# Altium footprint library PCB_proj_module_1_1.PcbLib: 60 footprints (part 2 of 4)
Each footprint in its own frame and in the unit in brackets; x right, y up, seen from the top. Pads: shape width x height; smd on the part's side, far side on the other; paste and mask are expansions set on the pad; w line width, h text height; cw(c..) or ccw(c..) is an arc to the next point about the centre after c.
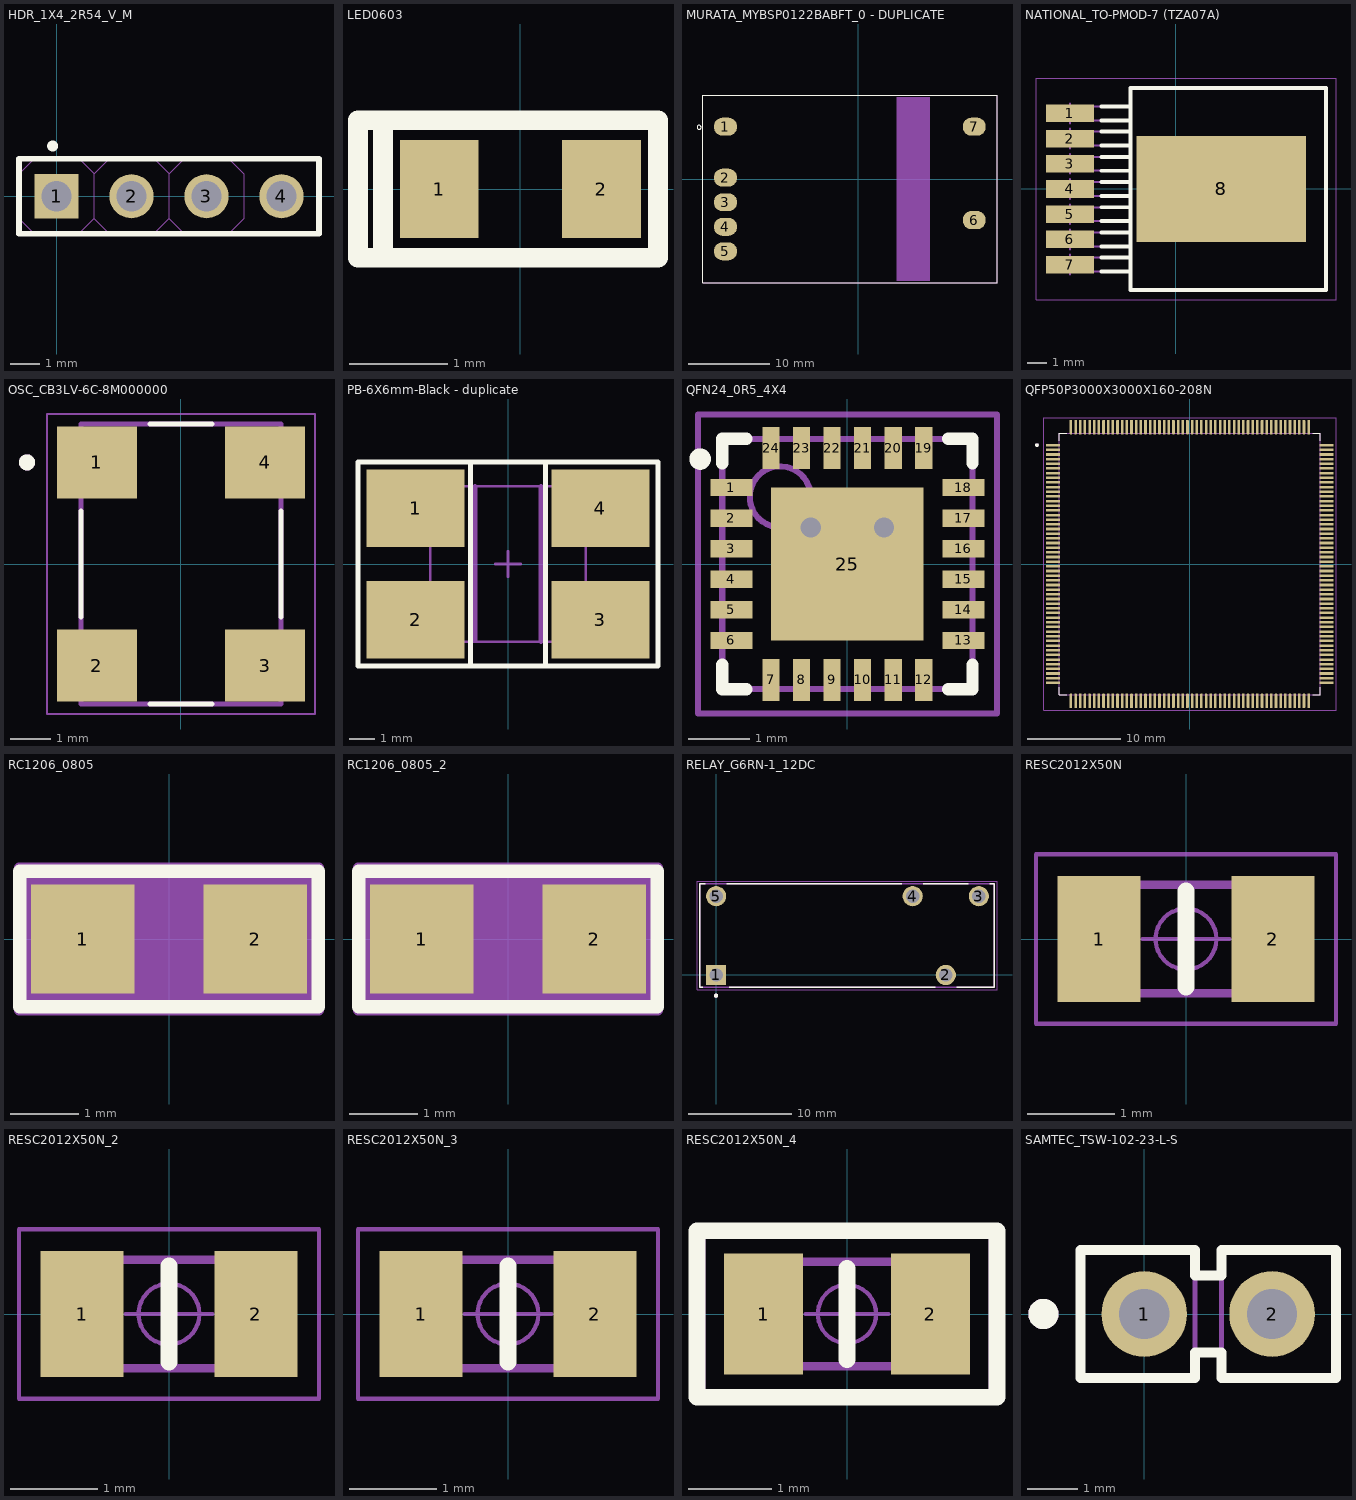
[diagram p1: the footprints below, top view; thin cyan lines are the x and y axes]

## HDR_1X4_2R54_V_M [mm] "Male Header, Pitch 2.54mm, 4x1 Position, Mated Height 6mm, Tail Length 3mm"
height 6
pads (4):
  rect 1.5x1.5 hole 1.02: 1(0,0)
  round 1.5 hole 1.02: 2(2.54,0) 3(5.08,0) 4(7.62,0)
Top Overlay:
  circle w0.25: c-0.135,1.702 r0.059
  lines w0.2: 8.865,1.27 -1.27,1.27 -1.27,-1.27 8.89,-1.27 8.89,1.27
Mechanical 13:
  lines w0.025: -1.27,-0.762 -1.27,0.762 ; -1.27,-0.762 -1.27,0.762 ; -1.27,-0.762 -0.762,-1.27 ; -1.27,0.762 -0.762,1.27 0.762,1.27 1.27,0.762 ; -0.762,-1.27 0.762,-1.27 ; -0.762,-1.27 0.762,-1.27 ; 0.762,-1.27 1.27,-0.762 ; 1.27,-0.762 1.27,0.762 ; 1.27,-0.762 1.27,0.762 ; 1.27,-0.762 1.27,0.762 ; 1.27,-0.762 1.27,0.762 ; 1.27,-0.762 1.778,-1.27 ; 1.27,0.762 1.778,1.27 3.302,1.27 3.81,0.762 ; 1.778,-1.27 3.302,-1.27 ; 1.778,-1.27 3.302,-1.27 ; 3.302,-1.27 3.81,-0.762 ; 3.81,-0.762 3.81,0.762 ; 3.81,-0.762 3.81,0.762 ; 3.81,-0.762 3.81,0.762 ; 3.81,-0.762 3.81,0.762 ; 3.81,-0.762 4.318,-1.27 ; 3.81,0.762 4.318,1.27 5.842,1.27 6.35,0.762 ; 4.318,-1.27 5.842,-1.27 ; 4.318,-1.27 5.842,-1.27 ; 5.842,-1.27 6.35,-0.762 ; 6.35,-0.762 6.35,0.762 ; 6.35,-0.762 6.35,0.762
3D body: height 2.54, standoff 0, extent -1.27,-1.27 1.27,1.27
3D body: height 9, standoff -2.54, extent -0.35,-0.349 0.347,0.349
3D body: height 2.54, standoff 0, extent 1.27,-1.27 3.81,1.27
3D body: height 9, standoff -2.54, extent 2.19,-0.349 2.887,0.349
3D body: height 2.54, standoff 0, extent 3.81,-1.27 6.35,1.27
3D body: height 9, standoff -2.54, extent 4.73,-0.349 5.427,0.349
3D body: height 9, standoff -2.54, extent 7.27,-0.349 7.967,0.349
3D body: height 2.54, standoff 0, extent 6.35,-1.27 8.89,1.27

## LED0603 [mm]
pads (2):
  rect 0.8x1 smd: 1(-0.825,0) 2(0.825,0)
Top Overlay:
  lines w0.2: -1.397,-0.635 -1.397,0.635 ; -1.651,-0.7 1.4,-0.7 1.4,0.7 -1.651,0.7 -1.651,-0.7
Mechanical 14:
  lines w0.1: -0.875,-0.4 -0.875,0.4 ; 0.725,-0.4 0.725,0.4
3D body: height 0.95, standoff 0.1, extent -0.712,-0.475 0.812,0.475

## MURATA_MYBSP0122BABFT_0 - DUPLICATE [mm]
height 3.31
pads (7):
  rrect91% 2.8x2.2 smd: 1(-16.27,6.42) 2(-16.27,0.18) 3(-16.27,-2.82) 4(-16.27,-5.82) 5(-16.27,-8.82) 6(14.17,-5.01) 7(14.17,6.42)
Top Overlay:
  circle w0: c-19.5,6.345 r0.25
  lines w0.15: -19.05,-12.65 16.95,-12.65 16.95,10.25 -19.05,10.25 -19.05,-12.65
Mechanical 14:
  lines w0.15: -19.05,-12.65 16.95,-12.65 16.95,10.25 -19.05,10.25 -19.05,-12.65
Mechanical 16:
  region: 8.7,-12.4 4.7,-12.4 4.7,10 8.7,10
3D body "step_temp.STEP": height 11.15, standoff 0, extent -18.766,-12.343 16.734,10.057

## NATIONAL_TO-PMOD-7 (TZA07A) [mm] "TO-PMOD 7 Pin Package, NATIONAL Package TZA07A, 1.70mm pitch; 9.85mm L X 10.16mm W X 4.67mm H body"
height 4.67
pads (8):
  rect 2.41x0.89 smd: 1(-5.339,3.81) 2(-5.339,2.54) 3(-5.339,1.27) 4(-5.339,0) 5(-5.339,-1.27) 6(-5.339,-2.54) 7(-5.339,-3.81)
  rect 8.54x5.35 smd: 8(2.291,0)
Top Overlay:
  lines w0.2: -3.734,-4.16 -2.279,-4.16 ; -3.734,-3.46 -2.279,-3.46 ; -3.734,-2.89 -2.279,-2.89 ; -3.734,-2.19 -2.279,-2.19 ; -3.734,-1.62 -2.279,-1.62 ; -3.734,-0.92 -2.279,-0.92 ; -3.734,-0.35 -2.279,-0.35 ; -3.734,0.35 -2.279,0.35 ; -3.734,0.92 -2.279,0.92 ; -3.734,1.62 -2.279,1.62 ; -3.734,2.19 -2.279,2.19 ; -3.734,2.89 -2.279,2.89 ; -3.734,3.46 -2.279,3.46 ; -3.734,4.16 -2.279,4.16 ; -2.279,-5.08 -2.279,5.08 7.571,5.08 7.571,-5.08 -2.279,-5.08
Mechanical 8:
  lines w0.1: -5.839,-3.81 -5.339,-3.81 ; -5.839,-2.54 -5.339,-2.54 ; -5.839,-1.27 -5.339,-1.27 ; -5.839,0 -5.339,0 ; -5.839,1.27 -5.339,1.27 ; -5.839,2.54 -5.339,2.54 ; -5.839,3.81 -5.339,3.81 ; -5.339,-4.31 -5.339,-3.81 ; -5.339,-3.31 -5.339,-3.81 ; -5.339,-3.04 -5.339,-2.54 ; -5.339,-2.04 -5.339,-2.54 ; -5.339,-1.77 -5.339,-1.27 ; -5.339,-0.77 -5.339,-1.27 ; -5.339,-0.5 -5.339,0 ; -5.339,0.5 -5.339,0 ; -5.339,0.77 -5.339,1.27 ; -5.339,1.77 -5.339,1.27 ; -5.339,2.04 -5.339,2.54 ; -5.339,3.04 -5.339,2.54 ; -5.339,3.31 -5.339,3.81 ; -5.339,4.31 -5.339,3.81 ; -4.839,-3.81 -5.339,-3.81 ; -4.839,-2.54 -5.339,-2.54 ; -4.839,-1.27 -5.339,-1.27 ; -4.839,0 -5.339,0 ; -4.839,1.27 -5.339,1.27 ; -4.839,2.54 -5.339,2.54 ; -4.839,3.81 -5.339,3.81 ; 1.791,0 2.291,0 ; 2.291,-0.5 2.291,0 ; 2.291,0.5 2.291,0 ; 2.791,0 2.291,0
Mechanical 14:
  lines w0.1: -2.279,-4.16 -6.199,-4.16 -6.199,-3.46 -2.279,-3.46 ; -2.279,-2.89 -6.199,-2.89 -6.199,-2.19 -2.279,-2.19 ; -2.279,-1.62 -6.199,-1.62 -6.199,-0.92 -2.279,-0.92 ; -2.279,-0.35 -6.199,-0.35 -6.199,0.35 -2.279,0.35 ; -2.279,0.92 -6.199,0.92 -6.199,1.62 -2.279,1.62 ; -2.279,2.19 -6.199,2.19 -6.199,2.89 -2.279,2.89 ; -2.279,3.46 -6.199,3.46 -6.199,4.16 -2.279,4.16 ; -2.279,-5.08 -2.279,5.08 7.571,5.08 7.571,-5.08 -2.279,-5.08
Mechanical 15:
  lines w0.05: -0.5,0 0,0 ; 0,-0.5 0,0 ; 0,0.5 0,0 ; 0.5,0 0,0 ; -7.044,-5.58 -7.044,5.58 8.071,5.58 8.071,-5.58 -7.044,-5.58
3D body "NATIONAL_TO-PMOD-7 (TZA07A).stp": height 4.77, standoff 0, extent -6.199,-5.08 7.571,5.08

## OSC_CB3LV-6C-8M000000 [mm]
height 1.8
pads (4):
  rect 2x1.8 smd: 1(-2.1,2.54) 2(-2.1,-2.54) 3(2.1,-2.54) 4(2.1,2.54)
Top Overlay:
  circle w0.2: c-3.85,2.54 r0.1
  lines w0.127: -2.5,-1.32 -2.5,1.32 ; -0.78,-3.5 0.78,-3.5 ; -0.78,3.5 0.78,3.5 ; 2.5,-1.32 2.5,1.32
Mechanical 14:
  circle w0.2: c-3.85,2.54 r0.1
  lines w0.127: -2.5,-3.5 2.5,-3.5 2.5,3.5 -2.5,3.5 -2.5,-3.5
Mechanical 15:
  lines w0.05: -3.35,-3.75 3.35,-3.75 3.35,3.75 -3.35,3.75 -3.35,-3.75
3D body "step_temp.STEP": height 1.8, standoff 0, extent -2.5,-3.5 2.5,3.5

## PB-6X6mm-Black - duplicate [mm] "Surface Mounting Type Tact Switch, 4-Leads, Body 6x6mm, Height 4.5mm Black"
height 4.5
pads (4):
  rect 3.8x3 smd: 1(-3.575,2.15) 2(-3.575,-2.15) 3(3.575,-2.15) 4(3.575,2.15)
Top Overlay:
  lines w0.2: -1.45,-3.95 -1.45,3.95 ; 1.45,-3.95 1.45,3.95 ; -5.8,-3.95 5.8,-3.95 5.8,3.95 -5.8,3.95 -5.8,-3.95
Mechanical 14:
  lines w0.1: -3,-3 3,-3 3,3 -3,3 -3,-3
  lines w0.2: -1.27,-2.921 -1.27,3 ; 1.27,-3 1.27,3
Mechanical 15:
  lines w0.05: -5.8,-3.95 -5.8,3.95 5.8,3.95 5.8,-3.95 -5.8,-3.95
  lines w0.1: -0.5,0 0.5,0 ; 0,-0.5 0,0.5
3D body: height 3.9, standoff 2.3, extent 1.359,-2.956 2.95,-1.362
3D body: height 3.9, standoff 2.3, extent -2.956,-2.951 -1.362,-1.359
3D body: height 3.9, standoff 2.3, extent 1.363,1.359 2.956,2.95
3D body: height 3.9, standoff 2.3, extent -2.951,1.363 -1.359,2.956
3D body: height 10.5, standoff 3.5, extent -1.736,-1.746 1.75,1.747
3D body: height 3.5, standoff 0, extent -3,-3 3,3

## QFN24_0R5_4X4 [mm] "SQFN 24 Pins, Pitch 0.5mm, 4mmx4mm"
height 1
pads (25):
  rect 0.69x0.28 smd: 1(-1.9,1.25) 2(-1.9,0.75) 3(-1.9,0.25) 4(-1.9,-0.25) 5(-1.9,-0.75) 6(-1.9,-1.25) 13(1.9,-1.25) 14(1.9,-0.75) 15(1.9,-0.25) 16(1.9,0.25) 17(1.9,0.75) 18(1.9,1.25)
  rect 0.28x0.69 smd: 7(-1.25,-1.9) 8(-0.75,-1.9) 9(-0.25,-1.9) 10(0.25,-1.9) 11(0.75,-1.9) 12(1.25,-1.9) 19(1.25,1.9) 20(0.75,1.9) 21(0.25,1.9) 22(-0.25,1.9) 23(-0.75,1.9) 24(-1.25,1.9)
  rect 2.5x2.5 smd: 25(0,0)
via 0.6,0.6 diameter 0.66 hole 0.33
via -0.6,0.6 diameter 0.66 hole 0.33
Top Overlay:
  circle w0.25: c-2.413,1.719 r0.051
  lines w0.2: -2.05,-1.651 -2.05,-2.05 -1.651,-2.05 ; -2.05,1.651 -2.05,2.05 -1.651,2.05 ; 1.651,-2.05 2.05,-2.05 2.05,-1.651 ; 1.651,2.05 2.05,2.05 2.05,1.651
Mechanical 14:
  circle w0.1: c-1.1,1.1 r0.5
  lines w0.1: -2.05,-2.05 -2.05,2.05 2.05,2.05 2.05,-2.05 -2.05,-2.05
Mechanical 15:
  lines w0.1: -0.5,0 0.5,0 ; 0,-0.5 0,0.5 ; -2.45,-2.45 -2.45,2.45 2.45,2.45 2.45,-2.45 -2.45,-2.45
3D body: height 1, standoff 0.02, extent -2.05,-2.05 2.05,2.05

## QFP50P3000X3000X160-208N [mm]
height 1
pads (208):
  rrect25% 1.52x0.28 smd: 1(-14.675,12.75) 2(-14.675,12.25) 3(-14.675,11.75) 4(-14.675,11.25) 5(-14.675,10.75) 6(-14.675,10.25) 7(-14.675,9.75) 8(-14.675,9.25) 9(-14.675,8.75) 10(-14.675,8.25) 11(-14.675,7.75) 12(-14.675,7.25) 13(-14.675,6.75) 14(-14.675,6.25) 15(-14.675,5.75) 16(-14.675,5.25) 17(-14.675,4.75) 18(-14.675,4.25) 19(-14.675,3.75) 20(-14.675,3.25) 21(-14.675,2.75) 22(-14.675,2.25) 23(-14.675,1.75) 24(-14.675,1.25) 25(-14.675,0.75) 26(-14.675,0.25) 27(-14.675,-0.25) 28(-14.675,-0.75) 29(-14.675,-1.25) 30(-14.675,-1.75) 31(-14.675,-2.25) 32(-14.675,-2.75) 33(-14.675,-3.25) 34(-14.675,-3.75) 35(-14.675,-4.25) 36(-14.675,-4.75) 37(-14.675,-5.25) 38(-14.675,-5.75) 39(-14.675,-6.25) 40(-14.675,-6.75) 41(-14.675,-7.25) 42(-14.675,-7.75) 43(-14.675,-8.25) 44(-14.675,-8.75) 45(-14.675,-9.25) 46(-14.675,-9.75) 47(-14.675,-10.25) 48(-14.675,-10.75) 49(-14.675,-11.25) 50(-14.675,-11.75) 51(-14.675,-12.25) 52(-14.675,-12.75) 105(14.675,-12.75) 106(14.675,-12.25) 107(14.675,-11.75) 108(14.675,-11.25) 109(14.675,-10.75) 110(14.675,-10.25) 111(14.675,-9.75) 112(14.675,-9.25) 113(14.675,-8.75) 114(14.675,-8.25) 115(14.675,-7.75) 116(14.675,-7.25) 117(14.675,-6.75) 118(14.675,-6.25) 119(14.675,-5.75) 120(14.675,-5.25) 121(14.675,-4.75) 122(14.675,-4.25) 123(14.675,-3.75) 124(14.675,-3.25) 125(14.675,-2.75) 126(14.675,-2.25) 127(14.675,-1.75) 128(14.675,-1.25) 129(14.675,-0.75) 130(14.675,-0.25) 131(14.675,0.25) 132(14.675,0.75) 133(14.675,1.25) 134(14.675,1.75) 135(14.675,2.25) 136(14.675,2.75) 137(14.675,3.25) 138(14.675,3.75) 139(14.675,4.25) 140(14.675,4.75) 141(14.675,5.25) 142(14.675,5.75) 143(14.675,6.25) 144(14.675,6.75) 145(14.675,7.25) 146(14.675,7.75) 147(14.675,8.25) 148(14.675,8.75) 149(14.675,9.25) 150(14.675,9.75) 151(14.675,10.25) 152(14.675,10.75) 153(14.675,11.25) 154(14.675,11.75) 155(14.675,12.25) 156(14.675,12.75)
  rrect25% 0.28x1.52 smd: 53(-12.75,-14.675) 54(-12.25,-14.675) 55(-11.75,-14.675) 56(-11.25,-14.675) 57(-10.75,-14.675) 58(-10.25,-14.675) 59(-9.75,-14.675) 60(-9.25,-14.675) 61(-8.75,-14.675) 62(-8.25,-14.675) 63(-7.75,-14.675) 64(-7.25,-14.675) 65(-6.75,-14.675) 66(-6.25,-14.675) 67(-5.75,-14.675) 68(-5.25,-14.675) 69(-4.75,-14.675) 70(-4.25,-14.675) 71(-3.75,-14.675) 72(-3.25,-14.675) 73(-2.75,-14.675) 74(-2.25,-14.675) 75(-1.75,-14.675) 76(-1.25,-14.675) 77(-0.75,-14.675) 78(-0.25,-14.675) 79(0.25,-14.675) 80(0.75,-14.675) 81(1.25,-14.675) 82(1.75,-14.675) 83(2.25,-14.675) 84(2.75,-14.675) 85(3.25,-14.675) 86(3.75,-14.675) 87(4.25,-14.675) 88(4.75,-14.675) 89(5.25,-14.675) 90(5.75,-14.675) 91(6.25,-14.675) 92(6.75,-14.675) 93(7.25,-14.675) 94(7.75,-14.675) 95(8.25,-14.675) 96(8.75,-14.675) 97(9.25,-14.675) 98(9.75,-14.675) 99(10.25,-14.675) 100(10.75,-14.675) 101(11.25,-14.675) 102(11.75,-14.675) 103(12.25,-14.675) 104(12.75,-14.675) 157(12.75,14.675) 158(12.25,14.675) 159(11.75,14.675) 160(11.25,14.675) 161(10.75,14.675) 162(10.25,14.675) 163(9.75,14.675) 164(9.25,14.675) 165(8.75,14.675) 166(8.25,14.675) 167(7.75,14.675) 168(7.25,14.675) 169(6.75,14.675) 170(6.25,14.675) 171(5.75,14.675) 172(5.25,14.675) 173(4.75,14.675) 174(4.25,14.675) 175(3.75,14.675) 176(3.25,14.675) 177(2.75,14.675) 178(2.25,14.675) 179(1.75,14.675) 180(1.25,14.675) 181(0.75,14.675) 182(0.25,14.675) 183(-0.25,14.675) 184(-0.75,14.675) 185(-1.25,14.675) 186(-1.75,14.675) 187(-2.25,14.675) 188(-2.75,14.675) 189(-3.25,14.675) 190(-3.75,14.675) 191(-4.25,14.675) 192(-4.75,14.675) 193(-5.25,14.675) 194(-5.75,14.675) 195(-6.25,14.675) 196(-6.75,14.675) 197(-7.25,14.675) 198(-7.75,14.675) 199(-8.25,14.675) 200(-8.75,14.675) 201(-9.25,14.675) 202(-9.75,14.675) 203(-10.25,14.675) 204(-10.75,14.675) 205(-11.25,14.675) 206(-11.75,14.675) 207(-12.25,14.675) 208(-12.75,14.675)
Top Overlay:
  circle w0.2: c-16.395,12.75 r0.1
  lines w0.127: -14,-13.21 -14,-14 -13.21,-14 ; -14,13.21 -14,14 -13.21,14 ; 13.21,-14 14,-14 14,-13.21 ; 13.21,14 14,14 14,13.21
Mechanical 14:
  circle w0.2: c-16.395,12.75 r0.1
  lines w0.127: -14,-14 -14,14 14,14 14,-14 -14,-14
Mechanical 15:
  lines w0.05: -15.685,-15.685 -15.685,15.685 15.685,15.685 15.685,-15.685 -15.685,-15.685
3D body "step_temp.STEP": height 1.6, standoff 0, extent -15,-15 15,15

## RC1206_0805 [mil]
pads (2):
  rect 60x63 smd paste+0 mask+0: 1(-50,0) 2(50,0)
Top Overlay:
  lines w7.87: -86.61,-39.37 86.61,-39.37 86.61,39.37 -86.61,39.37 -86.61,-39.37
Mechanical 14:
  lines w1: -63,-31.5 63,-31.5 ; -63,-31.5 -63,31.5 ; -63,-31.5 -63,31.5 ; -63,-31.5 -33,-31.5 -33,31.5 -63,31.5 ; -63,31.5 63,31.5 ; 63,-31.5 63,31.5 ; 63,-31.5 63,31.5 ; 63,-31.5 33,-31.5 33,31.5 63,31.5
  text ".Designator" at -74.8,-98.43 h59.06
Mechanical 15:
  region: 87,-41.5 -87,-41.5 -87,41.5 87,41.5
  lines w6: -87,-41.5 -87,41.5 87,41.5 87,-41.5 -87,-41.5
3D body "RC1206N_YAG.step": height 27.99, standoff 0, extent -62.99,-31.49 63,31.5

## RC1206_0805_2 [mil]
pads (2):
  rect 60x63 smd paste+0 mask+0: 1(-50,0) 2(50,0)
Top Overlay:
  lines w7.87: -86.61,-39.37 -86.61,39.37 86.61,39.37 86.61,-39.37 -86.61,-39.37
Mechanical 14:
  lines w1: -63,-31.5 -33,-31.5 -33,31.5 -63,31.5 ; -63,-31.5 -63,31.5 ; -63,-31.5 -63,31.5 ; -63,-31.5 63,-31.5 ; -63,31.5 63,31.5 ; 63,-31.5 33,-31.5 33,31.5 63,31.5 ; 63,-31.5 63,31.5 ; 63,-31.5 63,31.5
  text ".Designator" at -74.8,-98.43 h59.06
Mechanical 15:
  region: 87,-41.5 -87,-41.5 -87,41.5 87,41.5
  lines w6: -87,-41.5 87,-41.5 87,41.5 -87,41.5 -87,-41.5
3D body "RC1206N_YAG.step": height 27.99, standoff 0, extent -62.99,-31.49 63,31.5

## RELAY_G6RN-1_12DC [mm]
height 1
pads (5):
  rect 1.95x1.95 hole 1.3: 1(0,0)
  round 1.95 hole 1.3: 2(22.2,0) 3(25.4,7.62) 4(19,7.62) 5(0,7.62)
Top Overlay:
  circle w0.2: c0,-2 r0.1
  lines w0.127: -1.288,-1.19 -1.6,-1.19 -1.6,8.81 -1.038,8.81 ; 1.038,8.81 17.962,8.81 ; 1.288,-1.19 21.161,-1.19 ; 20.038,8.81 24.362,8.81 ; 23.239,-1.19 26.9,-1.19 26.9,8.81 26.438,8.81
Mechanical 14:
  circle w0.2: c0,-2 r0.1
  lines w0.127: -1.6,-1.19 26.9,-1.19 26.9,8.81 -1.6,8.81 -1.6,-1.19
Mechanical 15:
  lines w0.05: -1.85,-1.44 -1.85,9.06 27.15,9.06 27.15,-1.44 -1.85,-1.44
3D body "G6RN-1 DC12--3DModel-STEP-1.STEP": height 15, standoff -3.5, extent -1.6,-1.19 26.9,8.81

## RESC2012X50N [mm] "Chip Resistor, EIA 0805, Metric 2012, Body 2.0x1.25mm, IPC Medium Density"
height 0.5
pads (2):
  rect 0.95x1.45 smd: 1(-1,0) 2(1,0)
Top Overlay:
  lines w0.2: 0,-0.55 0,0.55
Mechanical 14:
  lines w0.1: -1.025,-0.625 1.025,-0.625 1.025,0.625 -1.025,0.625 -1.025,-0.625
Mechanical 15:
  circle w0.05: c0,0 r0.35
  lines w0.05: -0.5,0 0.5,0 ; 0,-0.5 0,0.5 ; -1.725,-0.975 1.725,-0.975 1.725,0.975 -1.725,0.975 -1.725,-0.975
3D body "RESC2012X50N.stp": height 0.5, standoff 0, extent -1.1,-0.675 1.1,0.675

## RESC2012X50N_2 [mm]
pads (2):
  rect 0.95x1.45 smd: 1(-1,0) 2(1,0)
Top Overlay:
  lines w0.2: 0,-0.55 0,0.55
Mechanical 14:
  lines w0.1: -1.025,-0.625 1.025,-0.625 1.025,0.625 -1.025,0.625 -1.025,-0.625
Mechanical 15:
  circle w0.05: c0,0 r0.35
  lines w0.05: -0.5,0 0.5,0 ; 0,-0.5 0,0.5 ; -1.725,-0.975 1.725,-0.975 1.725,0.975 -1.725,0.975 -1.725,-0.975
3D body "RESC2012X50N.stp": height 0.5, standoff 0, extent -1.1,-0.675 1.1,0.675

## RESC2012X50N_3 [mm]
pads (2):
  rect 0.95x1.45 smd: 1(-1,0) 2(1,0)
Top Overlay:
  lines w0.2: 0,-0.55 0,0.55
Mechanical 14:
  lines w0.1: -1.025,-0.625 1.025,-0.625 1.025,0.625 -1.025,0.625 -1.025,-0.625
Mechanical 15:
  circle w0.05: c0,0 r0.35
  lines w0.05: -0.5,0 0.5,0 ; 0,-0.5 0,0.5 ; -1.725,-0.975 1.725,-0.975 1.725,0.975 -1.725,0.975 -1.725,-0.975
3D body "RESC2012X50N.stp": height 0.5, standoff 0, extent -1.1,-0.675 1.1,0.675

## RESC2012X50N_4 [mm]
pads (2):
  rect 0.95x1.45 smd: 1(-1,0) 2(1,0)
Top Overlay:
  region: -1.8,1
  lines w0.2: 0,-0.55 0,0.55 ; -1.8,-1 1.8,-1 1.8,1 -1.8,1 -1.8,-1
Mechanical 14:
  lines w0.1: -1.025,-0.625 -1.025,0.625 1.025,0.625 1.025,-0.625 -1.025,-0.625
Mechanical 15:
  circle w0.05: c0,0 r0.35
  lines w0.05: -0.5,0 0.5,0 ; 0,-0.5 0,0.5 ; -1.725,-0.975 -1.725,0.975 1.725,0.975 1.725,-0.975 -1.725,-0.975
3D body "RESC2012X50N.stp": height 0.5, standoff 0, extent -1.1,-0.675 1.1,0.675

## SAMTEC_TSW-102-23-L-S [mm] "2 Contacts - Pitch 2.54mm - Single Row  Through Mount Straigh Header (Post Lead 5.84mm, Tail Lead 2.92mm, Insulator 2.54mm)"
height 8.38
pads (2):
  round 1.7 hole 1: 1(0,0) 2(2.54,0)
Top Overlay:
  circle w0.3: c-2,0 r0.15
  lines w0.2: -1.27,-1.27 1.007,-1.27 1.007,-0.762 1.533,-0.762 1.533,-1.27 3.81,-1.27 3.81,1.27 1.533,1.27 1.533,0.762 1.007,0.762 1.007,1.27 -1.27,1.27 -1.27,-1.27
Mechanical 8:
  lines w0.1: -0.5,0 0,0 ; 0,-0.5 0,0 ; 0,0.5 0,0 ; 0.5,0 0,0 ; 2.04,0 2.54,0 ; 2.54,-0.5 2.54,0 ; 2.54,0.5 2.54,0 ; 3.04,0 2.54,0
Mechanical 14:
  circle w0.3: c-2,0 r0.15
  lines w0.1: 1.007,-0.762 1.533,-0.762 ; 1.007,0.762 1.533,0.762 ; -1.27,-1.27 1.007,-1.27 1.007,1.27 -1.27,1.27 -1.27,-1.27 ; -0.317,-0.318 0.318,-0.318 0.317,0.317 -0.317,0.317 -0.317,-0.318 ; 1.533,-1.27 3.81,-1.27 3.81,1.27 1.533,1.27 1.533,-1.27 ; 2.223,-0.318 2.858,-0.318 2.858,0.317 2.223,0.317 2.223,-0.318
3D body "SAMTEC_TSW-102-23-L-S.stp": height 8.38, standoff -2.92, extent -1.27,-1.27 3.81,1.27